# Altium schematic symbol library antenna.SchLib: 1 symbol
Pins are listed as number, name and electrical type; pins without a type are passive.

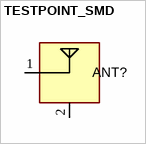
[diagram p0: symbol TESTPOINT_SMD]

## TESTPOINT_SMD
designator ANT?, comment Antenna  (no BOM)
TEST POINT; MANF: MANF; MANF_P#: MANF_P#; VALUE: Antenna
footprint ANT_IFA_2P4G (ANTENNA, IFA,GHz)
pins: 1, 2 GND